# EAGLE library part AS-ITM-00276 (library tinycircuits)
IC RF TRANSCEIVER 2.4GHZ 20QFN
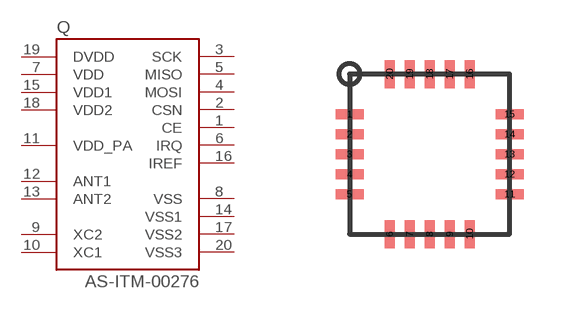
[diagram p112: symbol with the pads of QFN20-NO_PAD; footprint QFN20-NO_PAD]

Designator prefix Q

## AS-ITM-00276 (PARTNO: AS-ITM-00276; VALUE: NRF24L01P)  [QFN20-NO_PAD]
1  CE
2  CSN
3  SCK
4  MOSI
5  MISO
6  IRQ
7  VDD
8  VSS
9  XC2
10  XC1
11  VDD_PA
12  ANT1
13  ANT2
14  VSS1
15  VDD1
16  IREF
17  VSS2
18  VDD2
19  DVDD
20  VSS3

## Footprint QFN20-NO_PAD (pad centres in mm)
smd 0.7 x 0.25: 1 -2,1; 2 -2,0.5; 3 -2,0; 4 -2,-0.5; 5 -2,-1; 11 2,-1; 12 2,-0.5; 13 2,0; 14 2,0.5; 15 2,1
smd 0.25 x 0.7: 6 -1,-2; 7 -0.5,-2; 8 0,-2; 9 0.5,-2; 10 1,-2; 16 1,2; 17 0.5,2; 18 0,2; 19 -0.5,2; 20 -1,2